# EAGLE library part TRANS (library tov)
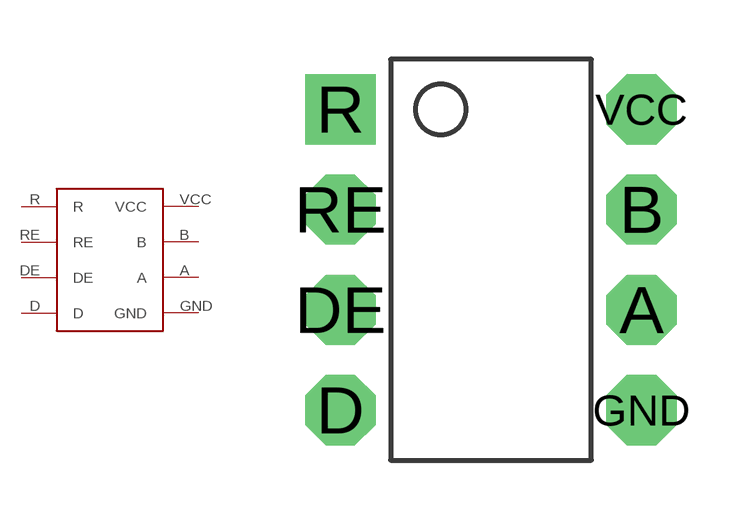
[diagram p1: symbol with the pads of TRANS; footprint TRANS]

Designator prefix -

## TRANS  [TRANS]
A  A
B  B
D  D
DE  DE
GND  GND
R  R
RE  RE
VCC  VCC

## Footprint TRANS (pad centres in mm)
drill 0.5 pad 1.778 octagon: A 7.62,-5.08; B 7.62,-2.54; D 0,-7.62; DE 0,-5.08; GND 7.62,-7.62; RE 0,-2.54; VCC 7.62,0
drill 0.5 pad 1.778 square: R 0,0